# EAGLE library part AVR-ATTINY24 (library tidyeagle)
Atmel 8-bit Microcontroller in DIP20 and SO20 packages. Datasheet: Summary <http://www.atmel.com/Images/8006S.pdf>, Full <http://www.atmel.com/Images/doc8006.pdf> Application Notes: AVR042 - Hardware Design Considerations <http://atmel.com/dyn/resources/prod_documents/doc2521.pdf> Supports the following chips - ATtiny24 ATtiny44 ATtiny84
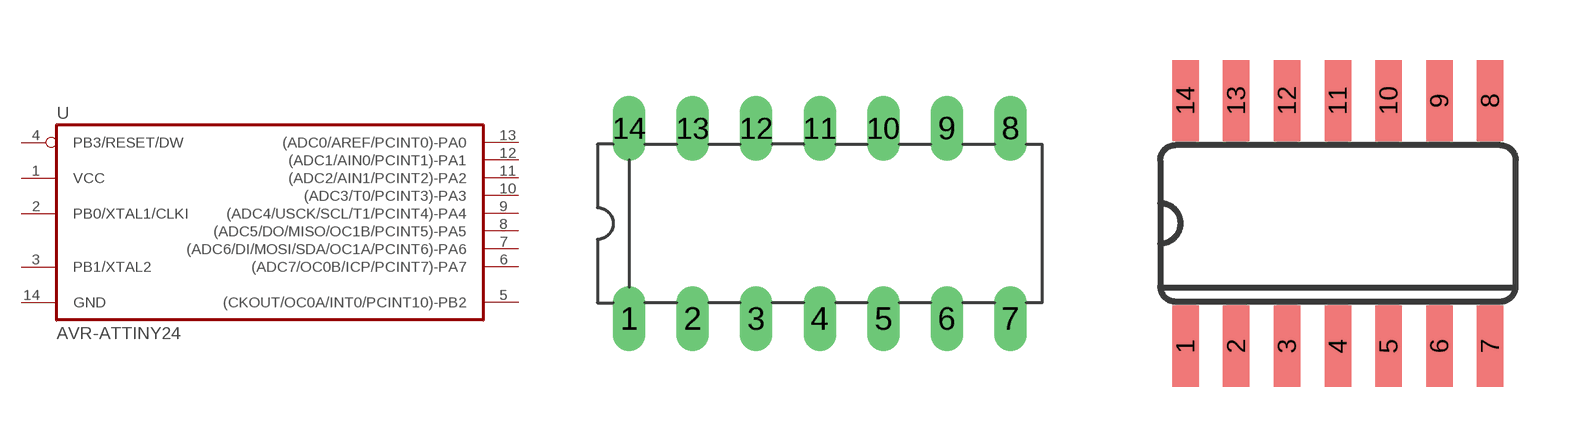
[diagram p20: symbol with the pads of DIL14-3; footprints DIL14-3, SO14]

Designator prefix -

## AVR-ATTINY24-DIP14  [DIL14-3]
1  VCC  pwr
2  PB0/XTAL1/CLKI
3  PB1/XTAL2
4  PB3/RESET/DW
5  (CKOUT/OC0A/INT0/PCINT10)-PB2
6  (ADC7/OC0B/ICP/PCINT7)-PA7
7  (ADC6/DI/MOSI/SDA/OC1A/PCINT6)-PA6
8  (ADC5/DO/MISO/OC1B/PCINT5)-PA5
9  (ADC4/USCK/SCL/T1/PCINT4)-PA4
10  (ADC3/T0/PCINT3)-PA3
11  (ADC2/AIN1/PCINT2)-PA2
12  (ADC1/AIN0/PCINT1)-PA1
13  (ADC0/AREF/PCINT0)-PA0
14  GND  pwr

## AVR-ATTINY24-SO14  [SO14]
Pads as for DIL14-3

## AVR-ATTINY24-SO14-HAND  [SO14-HAND]
Pads as for DIL14-3

## Footprint DIL14-3 (pad centres in mm)
drill 0.8 long: 1 -7.62,-3.81; 2 -5.08,-3.81; 3 -2.54,-3.81; 4 0,-3.81; 5 2.54,-3.81; 6 5.08,-3.81; 7 7.62,-3.81; 8 7.62,3.81; 9 5.08,3.81; 10 2.54,3.81; 11 0,3.81; 12 -2.54,3.81; 13 -5.08,3.81; 14 -7.62,3.81

## Footprint SO14 (pad centres in mm)
Small Outline package 150 mil
smd 0.66 x 2.032: 1 -3.81,-3.073; 2 -2.54,-3.073; 3 -1.27,-3.073; 4 0,-3.073; 5 1.27,-3.073; 6 2.54,-3.073; 7 3.81,-3.073; 8 3.81,3.073; 9 2.54,3.073; 10 1.27,3.073; 11 0,3.073; 12 -1.27,3.073; 13 -2.54,3.073; 14 -3.81,3.073

## Footprint SO14-HAND (pad centres in mm)
smd 0.762 x 2.794: 1 -3.81,-3.073; 2 -2.54,-3.073; 3 -1.27,-3.073; 4 0,-3.073; 5 1.27,-3.073; 6 2.54,-3.073; 7 3.81,-3.073; 8 3.81,3.073; 9 2.54,3.073; 10 1.27,3.073; 11 0,3.073; 12 -1.27,3.073; 13 -2.54,3.073; 14 -3.81,3.073